# Altium footprint library B105rlc.PcbLib: 36 footprints (part 3 of 3)
Each footprint in its own frame and in the unit in brackets; x right, y up, seen from the top. Pads: shape width x height; smd on the part's side, far side on the other; paste and mask are expansions set on the pad; w line width, h text height; cw(c..) or ccw(c..) is an arc to the next point about the centre after c.
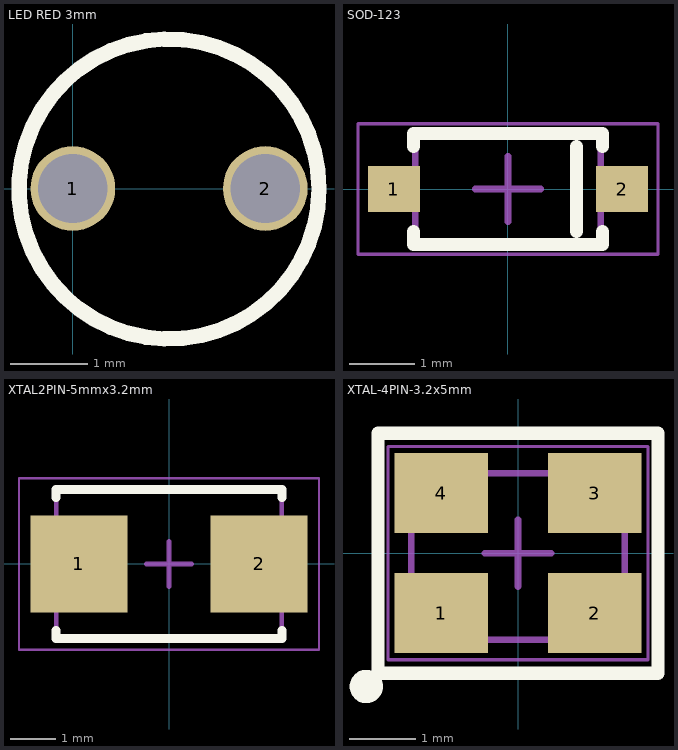
[diagram p2: the footprints below, top view; thin cyan lines are the x and y axes]

## LED RED 3mm [mm]
pads (2):
  round 1.1 hole 0.9: 1(0,0) 2(2.5,0)
Top Overlay:
  circle w0.2: c1.249,-0.006 r1.949
3D body: height 5.51, standoff -2.49, extent -0.4,-1.639 2.9,1.65

## SOD-123 [mm] "SODFL, 2-Leads, Body 1,55x3,70mm, IPC Medium Density"
height 1.1
pads (2):
  rect 0.8x0.7 smd: 1(-1.75,0) 2(1.75,0)
Top Overlay:
  lines w0.2: -1.45,-0.65 -1.45,-0.85 1.45,-0.85 1.45,-0.65 ; -1.45,0.65 -1.45,0.85 1.45,0.85 1.45,0.65 ; 1.05,-0.65 1.05,0.65
Mechanical 13:
  lines w0.1: -1.425,-0.85 -1.425,0.85 1.425,0.85 1.425,-0.85 -1.425,-0.85
Mechanical 15:
  lines w0.05: -2.3,-1 -2.3,1 2.3,1 2.3,-1 -2.3,-1
  lines w0.1: -0.5,0 0.5,0 ; 0,-0.5 0,0.5
3D body: height 1.42, standoff -0.03, extent -1.925,-0.85 1.925,0.85

## XTAL2PIN-5mmx3.2mm [mm] "Molded Capacitor, 2-Leads, Body 5,00x3,20mm, IPC Medium Density"
height 1.2
pads (2):
  rect 2.15x2.15 smd: 1(-2,0) 2(2,0)
Top Overlay:
  lines w0.2: -2.5,-1.475 -2.5,-1.65 2.5,-1.65 2.5,-1.475 ; -2.5,1.475 -2.5,1.65 2.5,1.65 2.5,1.475
Mechanical 13:
  lines w0.1: -2.5,-1.6 -2.5,1.6 2.5,1.6 2.5,-1.6 -2.5,-1.6
Mechanical 15:
  lines w0.05: -3.325,-1.9 -3.325,1.9 3.325,1.9 3.325,-1.9 -3.325,-1.9
  lines w0.1: -0.5,0 0.5,0 ; 0,-0.5 0,0.5
3D body: height 1.35, standoff 0, extent -2.495,-1.6 2.505,1.6

## XTAL-4PIN-3.2x5mm [mm] "XTAL-4PIN-3.2mmx2mm"
height 1
pads (4):
  rect 1.4x1.2 smd: 1(-1.15,-0.9) 2(1.15,-0.9) 3(1.15,0.9) 4(-1.15,0.9)
Top Overlay:
  circle w0.25: c-2.275,-2 r0.125
  lines w0.2: -2.1,-1.8 0.1,-1.8 2.1,-1.8 2.1,1.8 0.2,1.8 -2.1,1.8 -2.1,-1.8
Mechanical 13:
  lines w0.1: -1.6,-1.3 -1.6,1.2 1.6,1.2 1.6,-1.3 -1.6,-1.3
Mechanical 15:
  lines w0.05: -1.95,-1.6 -1.95,1.6 1.95,1.6 1.95,-1.6 -1.95,-1.6
  lines w0.1: -0.5,0 0.5,0 ; 0,-0.5 0,0.5
3D body: height 1.01, standoff 0, extent -1.6,-1.3 1.6,1.2